# EAGLE library part GRAYHILL3X4 (library Grayhill-keypad)
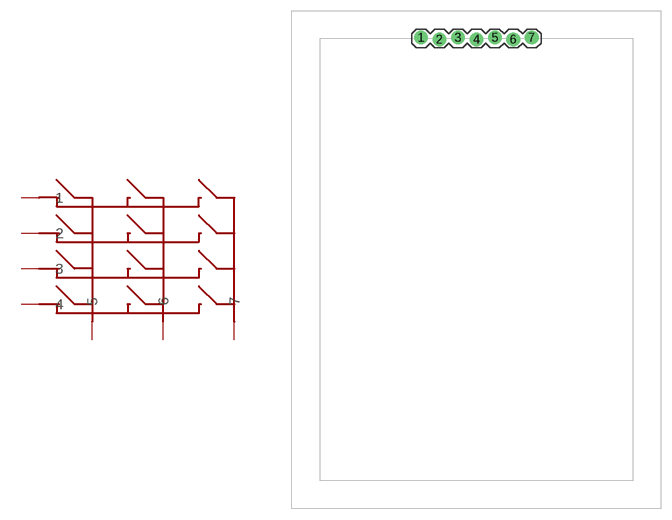
[diagram p0: symbol with the pads of 3X4; footprint 3X4]

Designator prefix -

## GRAYHILL3X4  [3X4]
1  1
2  2
3  3
4  4
5  5
6  6
7  7

## Footprint 3X4 (pad centres in mm)
drill 1.016 pad 1.88 round: 1 -7.62,0.127; 2 -5.08,-0.127; 3 -2.54,0.127; 4 0,-0.127; 5 2.54,0.127; 6 5.08,-0.127; 7 7.62,0.127